# EAGLE library part NHD-C0216CIZ-FSW-FBW (library Oles komponentbibliotek)
16 x 2 LCD module NHD - Newhaven Display chip-on-glass 2 lines x 16 characters module with white LED backlight. 2 lines x 16 characters Built-in ST7032i-oD with I²C interface 5x8 pixels with cursor 3V power supply 1/16 duty, 1/5 bias
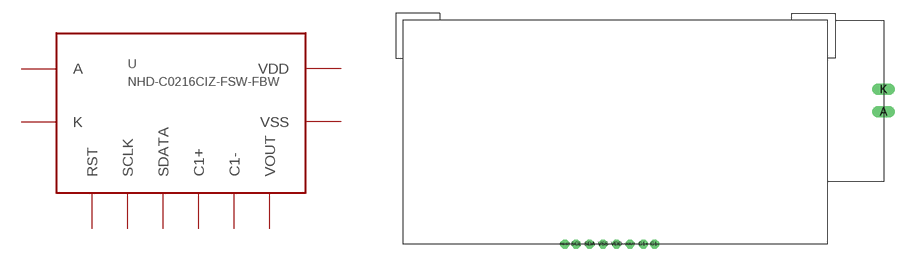
[diagram p8: symbol with the pads of NHD-C0216CIZ; footprint NHD-C0216CIZ]

Designator prefix -

## NHD-C0216CIZ-FSW-FBW  [NHD-C0216CIZ]
A  A  pwr
C1+  C1+  pas
C1-  C1-  pas
K  K  pwr
REST  RST  in
SCL  SCLK  in
SDA  SDATA
VDD  VDD  pwr
VOUT  VOUT  pwr
VSS  VSS  pwr

## Footprint NHD-C0216CIZ (pad centres in mm)
drill 0.8 pad 1.016 long: A 29.718,12.446; K 29.718,14.986
drill 0.5 pad 0.813 octagon: C1+ 2.54,-2.54; C1- 3.81,-2.54; REST -6.35,-2.54; SCL -5.08,-2.54; SDA -3.556,-2.54; VDD -0.508,-2.54; VOUT 1.016,-2.54; VSS -2.032,-2.54